# Altium schematic symbol library HEKR V1.1 原理图库.SchLib: 1 symbol
Pins are listed as number, name and electrical type; pins without a type are passive.

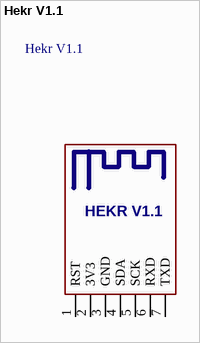
[diagram p0: symbol Hekr V1.1]

## Hekr V1.1
designator WIFI MODULE1
footprint hekr
pins: 1 RST, 2 3V3, 3 GND, 4 SDA, 5 SCK, 6 RXD, 7 TXD
text: HEKR V1.1